# EAGLE library part LT1054* (library IC)
Linear Technology LT1054/LT1054L Siwtched Capacitor Voltage Converter with Regulator
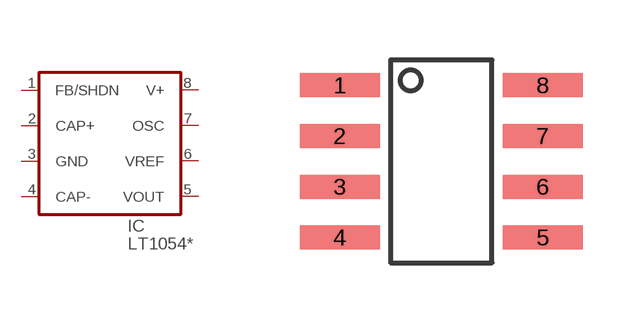
[diagram p115: symbol with the pads of SO8; footprint SO8]

Designator prefix IC

## LT1054CS8  [SO8]
1  FB/SHDN
2  CAP+
3  GND
4  CAP-
5  VOUT
6  VREF
7  OSC
8  V+

## Footprint SO8 (pad centres in mm)
smd 2 x 0.6: 1 -2.54,1.905; 2 -2.54,0.635; 3 -2.54,-0.635; 4 -2.54,-1.905; 5 2.54,-1.905; 6 2.54,-0.635; 7 2.54,0.635; 8 2.54,1.905